# EAGLE library part LM5175 (library common)
The LM5175 is a synchronous four-switch buck-boost 1• Single Inductor Buck-Boost Controller for Step- Up/Step-Down DC/DC Conversion DC/DC controller capable of regulating the output voltage at, above, or below the input voltage.
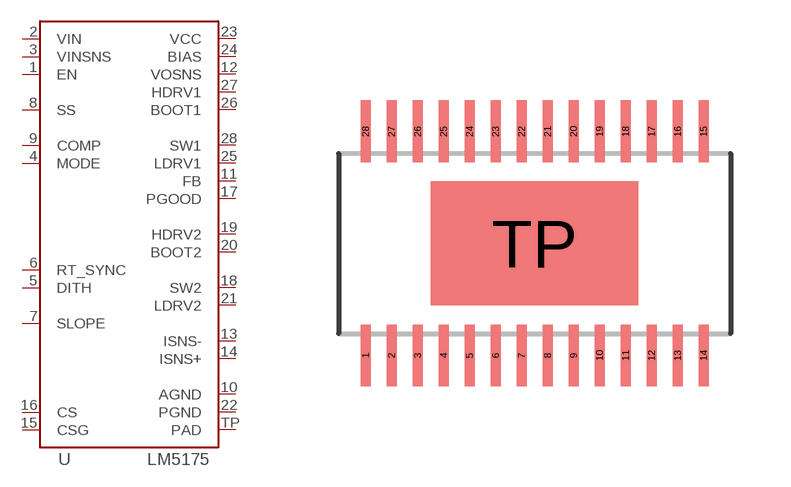
[diagram p28: symbol with the pads of R-PDSO-G28; footprint R-PDSO-G28]

Designator prefix U

## LM5175  [R-PDSO-G28]
1  EN
2  VIN
3  VINSNS
4  MODE
5  DITH
6  RT_SYNC
7  SLOPE
8  SS
9  COMP
10  AGND
11  FB
12  VOSNS
13  ISNS-
14  ISNS+
15  CSG
16  CS
17  PGOOD
18  SW2
19  HDRV2
20  BOOT2
21  LDRV2
22  PGND
23  VCC
24  BIAS
25  LDRV1
26  BOOT1
27  HDRV1
28  SW1
TP  PAD

## Footprint R-PDSO-G28 (pad centres in mm)
smd 0.25 x 1.55: 1 -4.225,-2.8; 2 -3.575,-2.8; 3 -2.925,-2.8; 4 -2.275,-2.8; 5 -1.625,-2.8; 6 -0.975,-2.8; 7 -0.325,-2.8; 8 0.325,-2.8; 9 0.975,-2.8; 10 1.625,-2.8; 11 2.275,-2.8; 12 2.925,-2.8; 13 3.575,-2.8; 14 4.225,-2.8; 15 4.225,2.8; 16 3.575,2.8; 17 2.925,2.8; 18 2.275,2.8; 19 1.625,2.8; 20 0.975,2.8; 21 0.325,2.8; 22 -0.325,2.8; 23 -0.975,2.8; 24 -1.625,2.8; 25 -2.275,2.8; 26 -2.925,2.8; 27 -3.575,2.8; 28 -4.225,2.8
smd 5.18 x 3.1: TP 0,0